# Altium schematic symbol library W2A45C103MAT2A.SchLib: 1 symbol
Pins are listed as number, name and electrical type; pins without a type are passive.

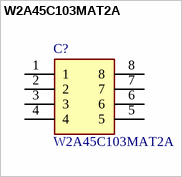
[diagram p0: symbol W2A45C103MAT2A]

## W2A45C103MAT2A
designator C?
Capacitor Arrays & Networks 50V 0.01uF 20% 4cap X7R; Manufacturer_Name: Kyocera AVX; Geometry.Height: 0.94mm; Manufacturer_Part_Number: W2A45C103MAT2A; Mouser Part Number: 581-W2A45C103MAT2A; Mouser Price/Stock: https://www.mouser.co.uk/ProductDetail/AVX/W2A45C103MAT2A?qs=yRKuMHbOG1qe0RwRtAbZEg%3D%3D; Arrow Part Number: W2A45C103MAT2A; Arrow Price/Stock: https://www.arrow.com/en/products/w2a45c103mat2a/avx; Datasheet Link: https://static6.arrow.com/aropdfconversion/45e297553e8a3b18fcd0ed38f532e52a09efc12d/caparray.pdf
footprint W2A45C103MAT2A
pins: 1, 2, 3, 4, 5, 6, 7, 8